# Altium schematic symbol library OpticalCoupler.SchLib: 2 symbols
Pins are listed as number, name and electrical type; pins without a type are passive.

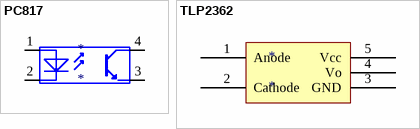
[diagram p0: symbols PC817 to TLP2362]

## PC817
designator *
footprint PC817
footprint LC-SOP-4_P1.27
pins: 1 A, 2 K, 3 E, 4 C

## TLP2362
designator *
footprint LC-SOP-5
pins: 1 Anode (power), 2 Cathode (power), 3 GND (power), 4 Vo (power), 5 Vcc (power)